# Altium footprint library Antenna.PcbLib: 5 footprints
Each footprint in its own frame and in the unit in brackets; x right, y up, seen from the top. Pads: shape width x height; smd on the part's side, far side on the other; paste and mask are expansions set on the pad; w line width, h text height; cw(c..) or ccw(c..) is an arc to the next point about the centre after c.
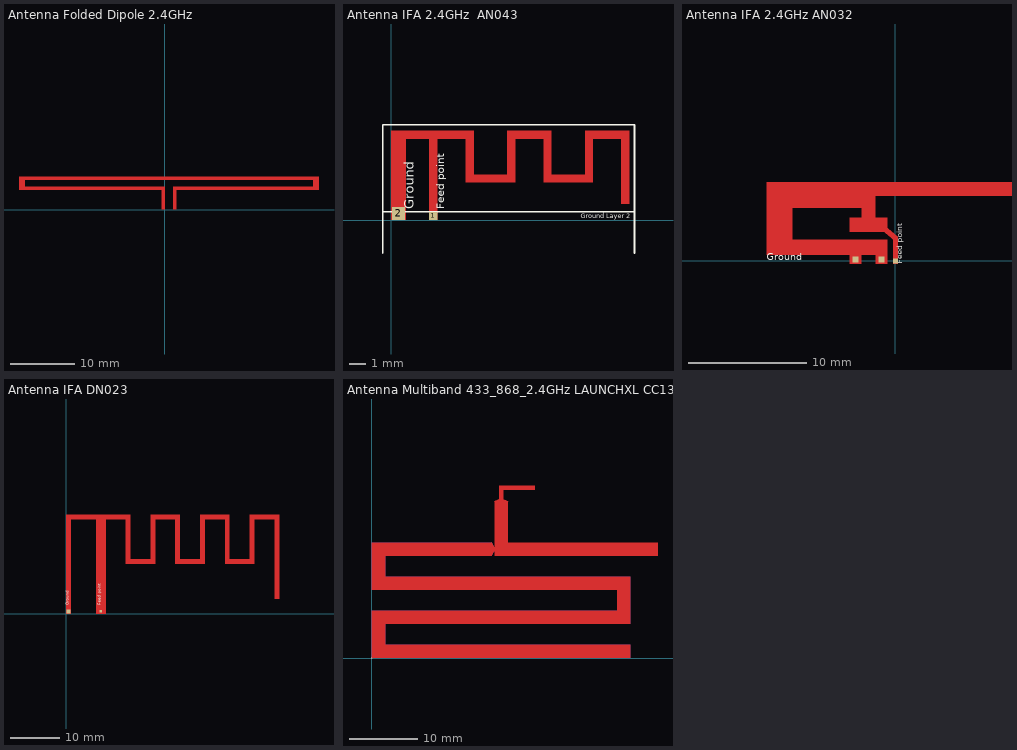
[diagram p0: the footprints below, top view; thin cyan lines are the x and y axes]

## Antenna Folded Dipole 2.4GHz [mm] "This document describes a folded dipole / PCB antenna design that can be used with / the following products from Texas / Instruments, CC2500, CC2550, CC2510 / and CC2511. Maximum gain is measured / to be 7.4 dB and overall size requirements / for this antenna is 46 x 9 mm. Thus this is / a compact, low cost and high performance / antenna."
Top Layer:
  region: 23.95,3.64 1.3,3.64 1.3,3.06 23.95,3.06
  region: 1.81,0 1.81,3.06 1.3,3.06 1.3,0
  region: 23.95,3.64 23.95,4.59 23,4.59 23,3.64
  region: 23.95,5.17 -22.65,5.17 -22.65,4.59 23.95,4.59
  rectangle: -22.65,4.59 23.95,5.17
  region: -21.7,3.64 -21.7,4.59 -22.65,4.59 -22.65,3.64
  rectangle: -22.65,4.59 23.95,5.17
  rectangle: -22.65,3.06 0,3.64
  region: 23.95,5.17 -22.65,5.17 -22.65,4.59 23.95,4.59
  region: 0,0 0,3.06 -0.51,3.06 -0.51,0
Top Solder:
  region: 23.95,3.64 23.95,4.59 23,4.59 23,3.64
  region: 23.95,3.64 1.3,3.64 1.3,3.06 23.95,3.06
  region: 1.81,0 1.81,3.06 1.3,3.06 1.3,0
  region: 23.95,5.17 -22.65,5.17 -22.65,4.59 23.95,4.59
  rectangle: -22.65,4.59 23.95,5.17
  region: -21.7,3.64 -21.7,4.59 -22.65,4.59 -22.65,3.64
  rectangle: -22.65,4.59 23.95,5.17
  rectangle: -22.65,3.06 0,3.64
  region: 23.95,5.17 -22.65,5.17 -22.65,4.59 23.95,4.59
  region: 0,0 0,3.06 -0.51,3.06 -0.51,0

## Antenna IFA 2.4GHz  AN043 [mm] "(Small Size 2.4 GHz PCB antenna)   The PCB antenna on the CC2511 USB dongle reference design is a meandered Inverted F / Antenna (IFA). The IFA was designed to match an impedance of 50 ohm at 2.45 GHz. Thus / no additional matching components are necessary."
pads (2):
  rect 0.5x0.5 smd: 1(2.55,0.25)
  rect 0.8x0.8 smd: 2(0.45,0.4)
via 0.45,0.25 diameter 0.2 hole 0.1
Top Layer:
  region: 14.4,0.96 14.4,4.9 13.9,4.9 13.9,0.96
  region: 14.4,5.4 11.7,5.4 11.7,4.9 14.4,4.9
  rectangle: 9.7,2.26 11.7,2.76
  region: 9.7,2.26 9.7,4.9 9.2,4.9 9.2,2.26
  region: 12.2,2.26 12.2,4.9 11.7,4.9 11.7,2.26
  rectangle: 5,2.26 7,2.76
  region: 0.9,0 0.9,4.9 0,4.9 0,0
  region: 2.8,0 2.8,4.9 2.3,4.9 2.3,0
  rectangle: 0,4.9 5,5.4
  region: 5,2.26 5,4.9 4.5,4.9 4.5,2.26
  region: 7.5,2.26 7.5,4.9 7,4.9 7,2.26
  region: 9.7,5.4 7,5.4 7,4.9 9.7,4.9
Top Overlay:
  lines w0.1: -0.5,-2 -0.5,0.51 ; -0.5,5.74 -0.5,0.51 ; -0.5,5.75 14.7,5.75 14.7,0.5 ; 14.7,-2 14.7,0.519 ; 14.7,0.51 -0.5,0.51
  text "Ground Layer 2" at 11.448,-0.021 h0.5
  text "Ground" at 1.591,0.66 h1
  text "Feed point" at 3.383,0.66 h0.8
Top Solder:
  region: 5,2.26 5,4.9 4.5,4.9 4.5,2.26
  rectangle: 0,4.9 5,5.4
  region: 2.8,0 2.8,4.9 2.3,4.9 2.3,0
  region: 0.9,0 0.9,4.9 0,4.9 0,0
  region: 9.7,5.4 7,5.4 7,4.9 9.7,4.9
  region: 7.5,2.26 7.5,4.9 7,4.9 7,2.26
  rectangle: 5,2.26 7,2.76
  region: 12.2,2.26 12.2,4.9 11.7,4.9 11.7,2.26
  region: 9.7,2.26 9.7,4.9 9.2,4.9 9.2,2.26
  rectangle: 9.7,2.26 11.7,2.76
  region: 14.4,5.4 11.7,5.4 11.7,4.9 14.4,4.9
  region: 14.4,0.96 14.4,4.9 13.9,4.9 13.9,0.96

## Antenna IFA 2.4GHz AN032 [mm]
pads (3):
  rect 0.4x0.4 smd: 1(0,0)
  rect 0.5x0.5 smd: 2(-3.37,0.128) 2(-1.17,0.128)
Top Layer:
  region: -0.67,2.448 -0.67,3.658 -3.87,3.658 -3.87,2.448
  region: 0.24,-0.242 0.24,2.044 -0.22,2.044 -0.22,-0.242
  rectangle: -10.85,0.498 -0.67,1.788
  region: -0.67,0.498 -1.67,0.498 -1.67,-0.242 -0.67,-0.242
  rectangle: -9.2,4.458 -2.87,6.458
  rectangle: -3.87,-0.242 -2.87,0.498
  rectangle: -10.85,0.498 -8.67,6.668
  region: 14.73,5.458 14.73,6.668 -10.55,6.668 -10.55,5.458
  region: -1.181,2.635 -0.056,1.691 0.24,2.044 -0.885,2.988
  rectangle: -2.87,3.658 -1.67,5.458
Top Overlay:
  text "Feed point" at 0.752,-0.242 h0.8
  text "Ground" at -10.85,-0.154 h1
Top Solder:
  region: 0.24,-0.242 0.24,2.044 -0.22,2.044 -0.22,-0.242
  rectangle: -10.85,0.498 -0.67,1.788
  rectangle: -3.87,-0.242 -2.87,0.498
  rectangle: -10.85,0.498 -8.67,6.668
  region: 14.73,5.458 14.73,6.668 -10.55,6.668 -10.55,5.458
  region: -0.67,0.498 -1.67,0.498 -1.67,-0.242 -0.67,-0.242
  region: -0.67,2.448 -0.67,3.658 -3.87,3.658 -3.87,2.448
  rectangle: -9.2,4.458 -2.87,6.458
  region: -1.181,2.635 -0.056,1.691 0.24,2.044 -0.885,2.988
  rectangle: -2.87,3.658 -1.67,5.458

## Antenna IFA DN023 [mm] "The antenna described in this document is an inverted F antenna. Since the impedance of / this antenna is approximately matched to 50 ohm, no external matching components are / needed. The size of the ground plane affects the impedance of the antenna."
pads (2):
  rect 0.5x0.5 smd: 1(7,0.483)
  rect 0.8x0.8 smd: 2(0.5,0.483)
Top Layer:
  rectangle: 0,19 13,20
  rectangle: 22,10 28,11
  region: 23,10 23,20 22,20 22,10
  region: 27,20 27,10 28,10 28,20
  rectangle: 12,10 18,11
  region: 13,10 13,20 12,20 12,10
  region: 1,0 1,20 0,20 0,0
  region: 6,20 6,0 8,0 8,20
  rectangle: 17,19 23,20
  region: 17,20 17,10 18,10 18,20
  region: 33,10 33,20 32,20 32,10
  rectangle: 27,19 33,20
  rectangle: 32,10 38,11
  region: 37,20 37,10 38,10 38,20
  rectangle: 37,19 43,20
  region: 43,3 43,20 42,20 42,3
Top Overlay:
  text "Feed point" at 7.194,1.753 h1
  text "Ground" at 0.779,1.753 h1

## Antenna Multiband 433_868_2.4GHz LAUNCHXL CC1352P4 [mm] "(433 to 930-MHz and 2.4-GHz BOM Tunable PCB Antenna) The antenna described in this document is a PCB meander monopole that users can configure by changing the / BOM to operate as a single-band antenna or dual-band antenna. The resonance is set by the antenna PCB / trace element and the antenna matching components. This allows the antenna to cover a wideband range with / one antenna pattern design. The impedance of this antenna depends on the mode used. Referring to Figure 1-1, / if the length of L4 is kept as shown, this is beneficial for operation around 433–510 MHz. If L4 is shortened to / half the length (19.0 mm), this is beneficial when operating at 868–930 MHz. / The antenna layout is positioned on the top and bottom layer of the board as can be seen in Figure 1-1; this / enables a lower resistive loss and gives a slightly wider bandwidth compared to a single-sided layout solution. / With a single-sided layout; the area underneath the antenna can not be used for any other routing so it is more / useful to utilize this area to optimize the antenna’s performance."
via 0,0 diameter 0.2 hole 0.1
via 0,0 diameter 0.2 hole 0.1
Top Layer:
  rectangle: 17.907,15.672 18.161,16.321
  region: 23.953,24.679 23.953,25.321 18.679,25.321 18.679,24.679
  region: 19.321,25.324 18.679,25.324 18.679,23.307 19.321,23.307
  region: 20,17 20,23 18,23 18,17
  region: 2,10 2,16 0,16 0,10
  region: 38,5 38,11 36,11 36,5
  region: 2,0 2,6 0,6 0,0
  rectangle: 0,5 38,7
  rectangle: 0,0 38,2
  rectangle: 0,10 38,12
  rectangle: 0,15 16,17
  rectangle: 15.824,15 17.6,17
  rectangle: 18,15 42,17
  rectangle: 17.907,15.679 17.907,16.321
  region: 18.679,23.307 18,23 20,23 19.321,23.307
  region: 17.907,16.321 17.6,17 17.6,15 17.907,15.679
Bottom Layer:
  rectangle: 17.907,15.672 18.161,16.321
  region: 2,10 2,16 0,16 0,10
  region: 38,5 38,11 36,11 36,5
  region: 2,0 2,6 0,6 0,0
  rectangle: 0,5 38,7
  rectangle: 0,0 38,2
  rectangle: 0,10 38,12
  rectangle: 0,15 16,17
  rectangle: 15.824,15 17.6,17
  region: 17.907,16.321 17.6,17 17.6,15 17.907,15.679